# EAGLE library part MAX3010X (library CalvEngIO-Sensors)
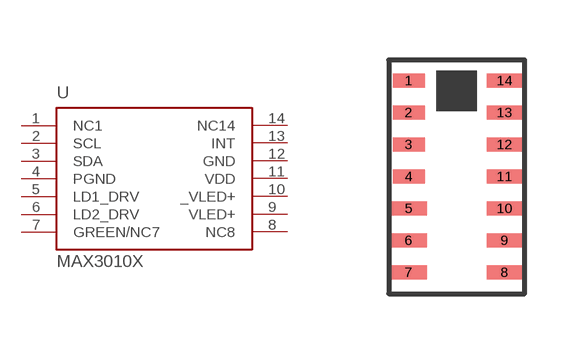
[diagram p0: symbol with the pads of OESIP14; footprint OESIP14]

Designator prefix -

## MAX3010X  [OESIP14]
1  NC1
2  SCL
3  SDA
4  PGND
5  LD1_DRV
6  LD2_DRV
7  GREEN/NC7
8  NC8
9  VLED+
10  _VLED+
11  VDD
12  GND
13  INT
14  NC14

## Footprint OESIP14 (pad centres in mm)
smd 0.8 x 0.35: 1 -1.2,2.54; 2 -1.2,1.74; 3 -1.2,0.94; 4 -1.2,0.14
smd 0.9 x 0.35: 5 -1.2,-0.66; 6 -1.2,-1.46; 7 -1.2,-2.26; 8 1.2,-2.26; 9 1.2,-1.46; 10 1.2,-0.66; 11 1.2,0.14; 12 1.2,0.94; 13 1.2,1.74; 14 1.2,2.54